# Altium footprint library opto-vishay.PCBLIB: 6 footprints
Each footprint in its own frame and in the unit in brackets; x right, y up, seen from the top. Pads: shape width x height; smd on the part's side, far side on the other; paste and mask are expansions set on the pad; w line width, h text height; cw(c..) or ccw(c..) is an arc to the next point about the centre after c.
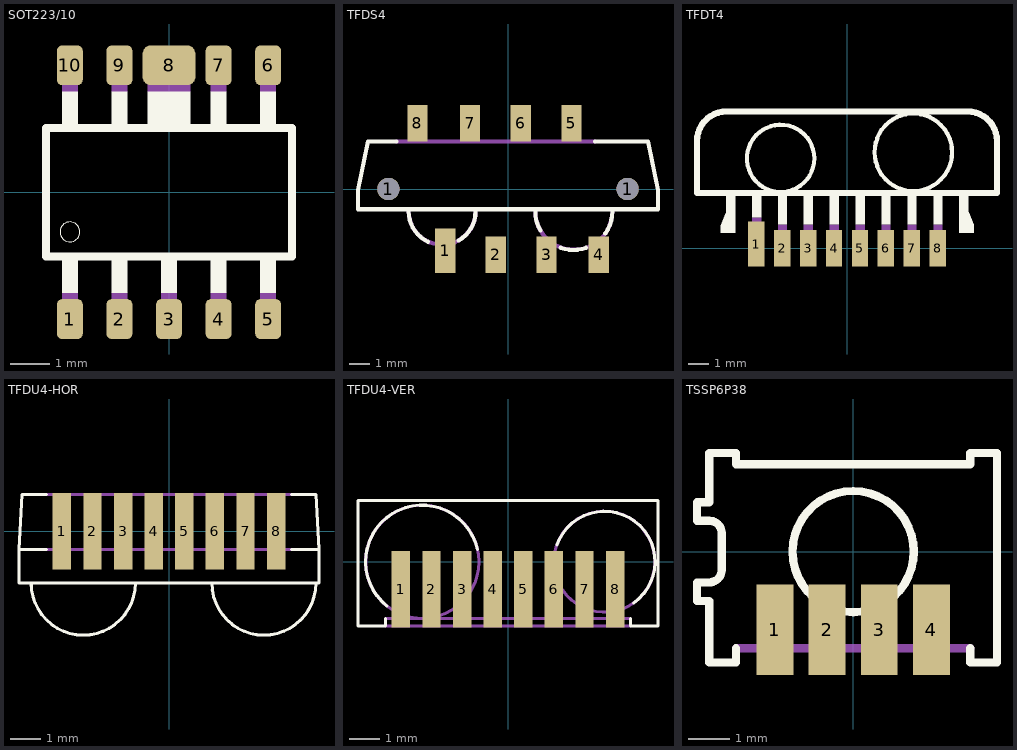
[diagram p0: the footprints below, top view; thin cyan lines are the x and y axes]

## SOT223/10 [mil]
pads (10):
  rrect40% 25.98x40.16 smd: 1(-100,-128) 2(-50,-128) 3(0,-128) 4(50,-128) 5(100,-128) 6(100,128) 7(50,128) 9(-50,128) 10(-100,128)
  rrect40% 53.15x40.16 smd: 8(0,128)
Top Overlay:
  circle w0: c-100,-40 r10
  region: -92,-101.5 -92,-68.5 -108,-68.5 -108,-101.5
  region: -42,-101.5 -42,-68.5 -58,-68.5 -58,-101.5
  region: 8,-101.5 8,-68.5 -8,-68.5 -8,-101.5
  region: 58,-101.5 58,-68.5 42,-68.5 42,-101.5
  region: 108,-101.5 108,-68.5 92,-68.5 92,-101.5
  region: 92,101.5 92,68.5 108,68.5 108,101.5
  region: 42,101.5 42,68.5 58,68.5 58,101.5
  region: -21.5,101.5 -21.5,68.5 21.5,68.5 21.5,101.5
  region: -58,101.5 -58,68.5 -42,68.5 -42,101.5
  region: -108,101.5 -108,68.5 -92,68.5 -92,101.5
  lines w8: -124.02,-64.96 -124.02,64.96 124.02,64.96 124.02,-64.96 -124.02,-64.96
Mechanical 16:
  region: -92,-138 -92,-101 -108,-101 -108,-138
  region: -42,-138 -42,-101 -58,-101 -58,-138
  region: 8,-138 8,-101 -8,-101 -8,-138
  region: 58,-138 58,-101 42,-101 42,-138
  region: 108,-138 108,-101 92,-101 92,-138
  region: 92,138 92,101 108,101 108,138
  region: 42,138 42,101 58,101 58,138
  region: -21.5,138 -21.5,101 21.5,101 21.5,138
  region: -58,138 -58,101 -42,101 -42,138
  region: -108,138 -108,101 -92,101 -92,138

## TFDS4 [mm]
pads (10):
  round 1.1 hole 1.1: 1(-5.9,0) 1(5.9,0)
  rect 1x2.2 smd: 1(-3.1,-3.05)
  rect 1x1.8 smd: 2(-0.6,-3.25) 3(1.9,-3.25) 4(4.48,-3.25) 5(3.13,3.25) 6(0.63,3.25) 7(-1.87,3.25) 8(-4.47,3.25)
Top Overlay:
  lines w0.203: -5.5,2.35 -6.9,2.35 -7.4,-0.05 -7.4,-1 7.4,-1 7.4,-0.05 6.9,2.35 4.3,2.35 ; -4.9,-1.1 ccw(c-3.25,-1.106) -3.95,-2.6 ; -2.45,-2.55 ccw(c-3.25,-1.107) -1.6,-1.1 ; 1.35,-1.1 ccw(c3.25,-1.108) 1.6,-2.05 ; 2.6,-2.9 ccw(c3.225,-1.125) 3.85,-2.9 ; 4.8,-2.2 ccw(c3.25,-1.101) 5.15,-1.1
Mechanical 16:
  lines w0.203: -5.5,2.35 4.3,2.35 ; -4.9,-1.1 ccw(c-3.25,-1.1) -1.6,-1.1 ; 1.35,-1.1 ccw(c3.25,-1.1) 5.15,-1.1

## TFDT4 [mil]
pads (8):
  rect 31.5x86.61 smd: 1(-175,7.87)
  rect 31.5x70.87 smd: 2(-125,0) 3(-75,0) 4(-25,0) 5(25,0) 6(75,0) 7(125,0) 8(175,0)
Top Overlay:
  circle w8: c-127.95,173.23 r64.96
  circle w8: c127.95,185.04 r74.8
  rectangle: -133.46,45.28 -115.75,102.36
  rectangle: -83.46,45.28 -65.75,102.36
  rectangle: -33.46,45.28 -15.75,102.36
  rectangle: 16.54,45.28 34.25,102.36
  rectangle: 66.54,45.28 84.25,102.36
  rectangle: 116.54,45.28 134.25,102.36
  rectangle: 166.54,45.28 184.25,102.36
  rectangle: -183.07,59.06 -165.35,102.36
  rectangle: -233.27,29.53 -215.55,101.38
  rectangle: 216.54,29.53 234.25,101.38
  rectangle: -244.09,29.53 -232.28,42.32
  rectangle: 233.27,29.53 245.08,42.32
  lines w12: -238.19,41.34 -228.35,64.96 ; 229.33,66.93 239.17,43.31 ; -289.37,106.3 -289.37,206.69 cw(c-232.28,206.69) -232.28,263.78 232.28,263.78 cw(c232.28,206.69) 289.37,206.69 289.37,106.3 -289.37,106.3
Mechanical 16:
  rectangle: -133.46,-29.53 -115.75,45.28
  rectangle: -83.46,-29.53 -65.75,45.28
  rectangle: -33.46,-29.53 -15.75,45.28
  rectangle: 16.54,-29.53 34.25,45.28
  rectangle: 66.54,-29.53 84.25,45.28
  rectangle: 116.54,-29.53 134.25,45.28
  rectangle: 166.54,-29.53 184.25,45.28
  rectangle: -183.07,-29.53 -165.35,59.06

## TFDU4-HOR [mil]
pads (8):
  rect 23.62x98.43 smd: 1(-137.8,0) 2(-98.43,0) 3(-59.06,0) 4(-19.69,0) 5(19.69,0) 6(59.06,0) 7(98.43,0) 8(137.8,0)
Top Overlay:
  lines w4: -177.17,-66.93 ccw(c-110.24,-66.93) -43.31,-66.93 ; -157.48,-23.62 -192.91,-23.62 ; -157.48,47.24 -188.98,47.24 -192.91,-23.62 ; 55.12,-66.93 ccw(c122.05,-66.93) 188.98,-66.93 ; 157.48,-23.62 192.91,-23.62 ; 157.48,47.24 188.98,47.24 192.91,-23.62 ; -192.91,-23.62 -192.91,-66.93 192.91,-66.93 192.91,-23.62
Mechanical 16:
  lines w4: -157.48,-23.62 157.48,-23.62 ; -157.48,47.24 157.48,47.24

## TFDU4-VER [mil]
pads (8):
  rect 23.62x98.43 smd: 1(-137.8,-35.43) 2(-98.43,-35.43) 3(-59.06,-35.43) 4(-19.69,-35.43) 5(19.69,-35.43) 6(59.06,-35.43) 7(98.43,-35.43) 8(137.8,-35.43)
Top Overlay:
  lines w4: -157.48,-72.83 -157.48,-82.68 -192.91,-82.68 -192.91,78.74 192.91,78.74 192.91,-82.68 157.48,-82.68 157.48,-72.83 ; -155.51,-57.09 cw(c-110.4,0) -39.37,15.75 ; 62.99,21.65 cw(c124.17,0) 161.42,-53.15
Mechanical 16:
  circle w4: c124.02,0 r64.96
  circle w4: c-110.24,0 r72.83
  lines w4: -157.48,-82.68 157.48,-82.68 ; -157.48,-72.83 157.48,-72.83

## TSSP6P38 [mil]
pads (4):
  rect 35.43x86.61 smd: 1(-75,-75) 2(-25,-75) 3(25,-75) 4(75,-75)
Top Overlay:
  circle w7.87: c0,0 r58.08
  lines w7.87: -112.2,-92.52 -112.2,-106.3 -137.8,-106.3 -137.8,-47.24 -149.61,-47.24 -149.61,-29.53 -137.8,-29.53 ccw(c-137.79,-17.71) -125.98,-17.72 -125.98,17.72 ccw(c-137.79,17.71) -137.8,29.53 -149.61,29.53 -149.61,47.24 -137.8,47.24 -137.8,94.49 -112.2,94.49 -112.2,83.66 112.2,83.66 112.2,94.49 137.8,94.49 137.8,-106.3 112.2,-106.3 112.2,-92.52
Mechanical 16:
  rectangle: -87.6,-109.25 -62.99,-93.5
  rectangle: -37.6,-109.25 -12.99,-93.5
  rectangle: 12.4,-109.25 37.01,-93.5
  rectangle: 62.4,-109.25 87.01,-93.5
  lines w7.87: -112.2,-92.52 112.2,-92.52